# Altium schematic symbol library systeMECH.SchLib: 8 symbols
Pins are listed as number, name and electrical type; pins without a type are passive.

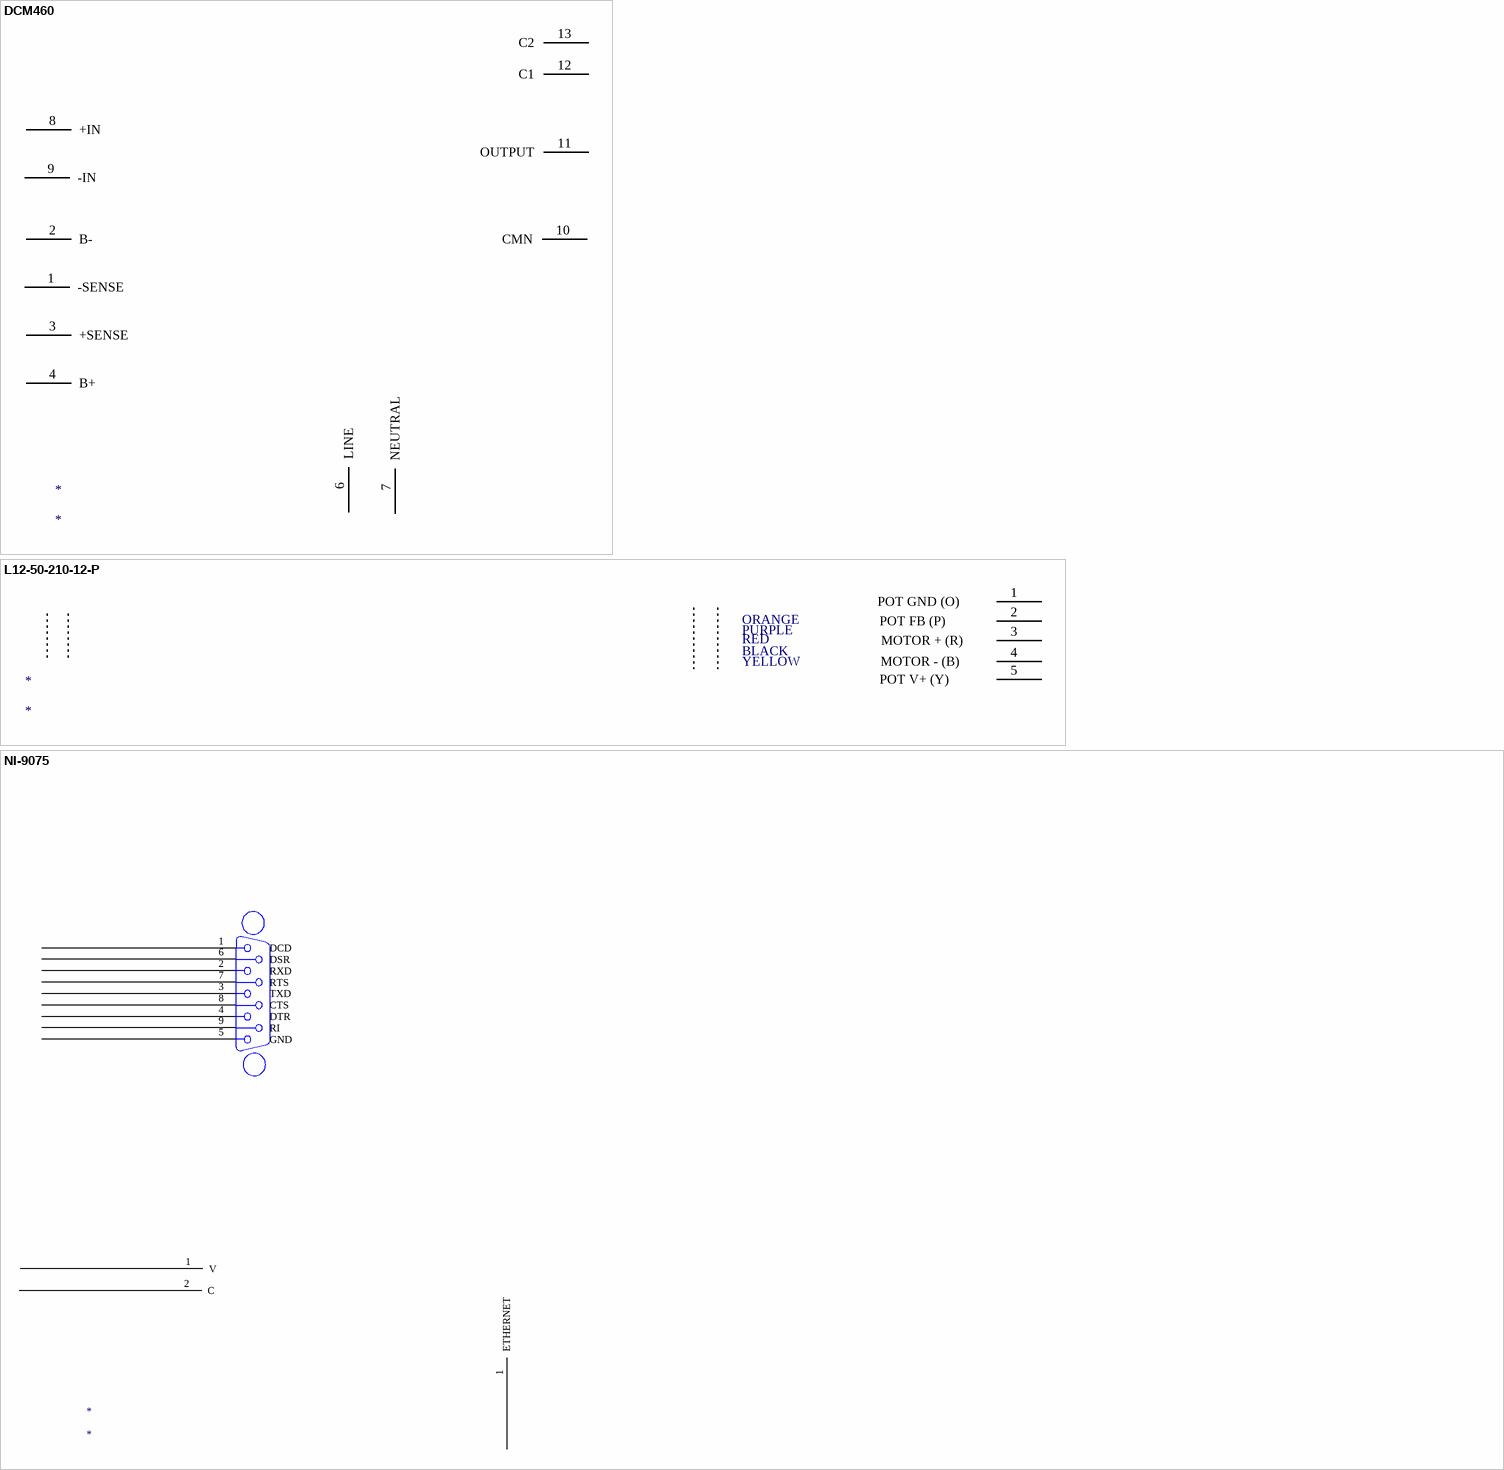
[diagram p0: symbols DCM460 to NI-9075]

## DCM460
designator *
pins: 1 -SENSE, 2 B-, 3 +SENSE, 4 B+, 6 LINE, 7 NEUTRAL, 8 +IN, 9 -IN, 10 CMN, 11 OUTPUT, 12 C1, 13 C2

## L12-50-210-12-P
designator *
pins: 1 POT GND (O)        , 2 POT FB (P)            , 3 MOTOR + (R)       , 4 MOTOR - (B)        , 5 POT V+ (Y)           
text: ORANGE; PURPLE; RED; BLACK; YELLOW

## NI-9075
designator *
pins: 1 V, 1 ETHERNET, 1            DCD, 2 C, 2            RXD, 3            TXD, 4            DTR, 5            GND, 6            DSR, 7            RTS, 8            CTS, 9            RI

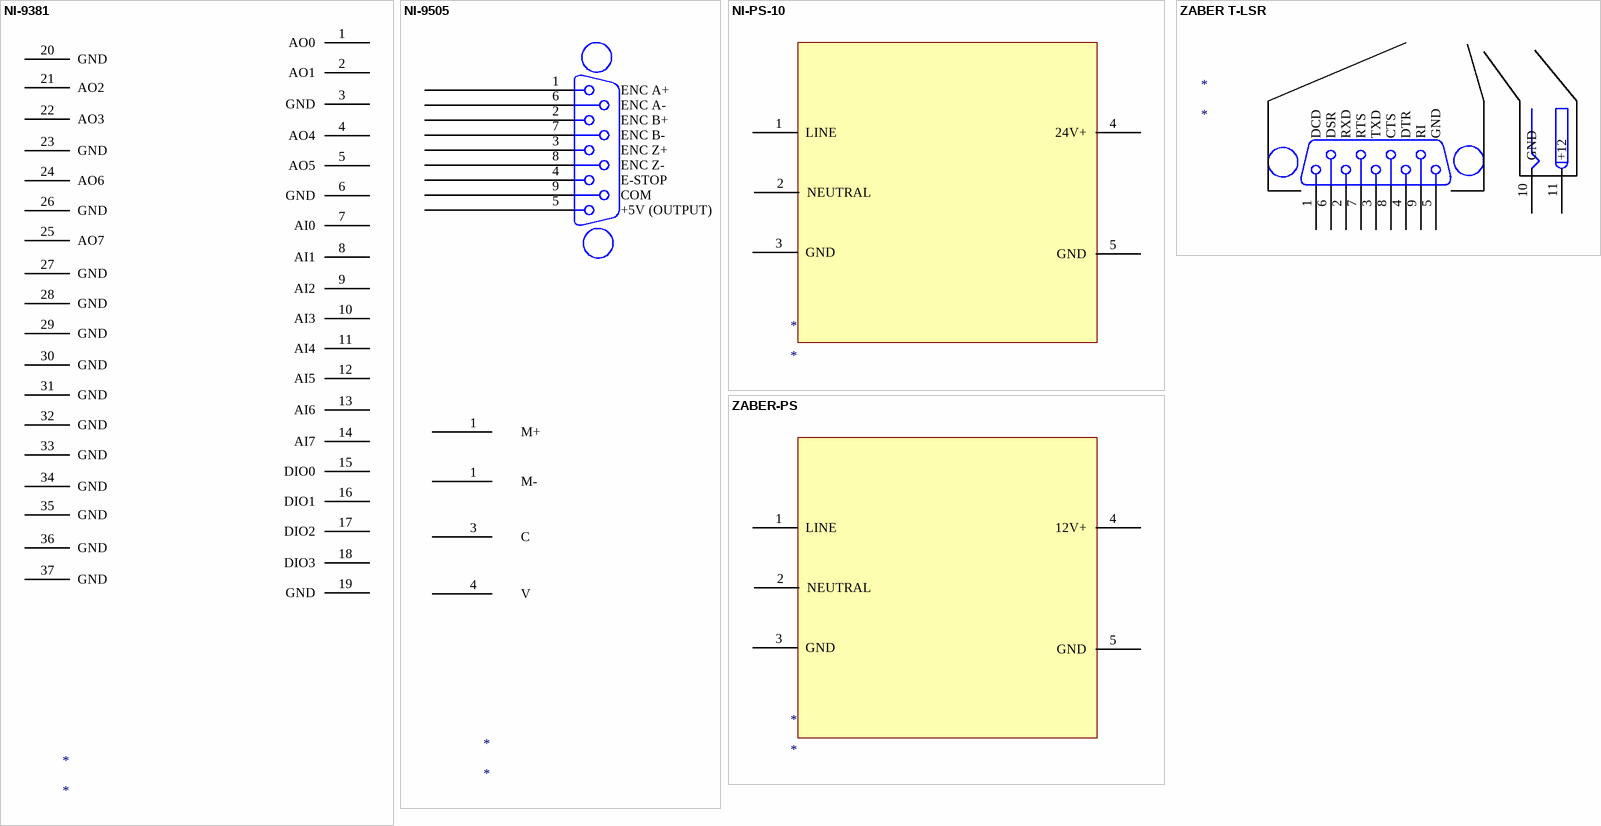
[diagram p1: symbols NI-9381 to ZABER-PS]

## NI-9381
designator *
pins: 1 AO0, 2 AO1, 3 GND, 4 AO4, 5 AO5, 6 GND, 7 AI0, 8 AI1, 9 AI2, 10 AI3, 11 AI4, 12 AI5, 13 AI6, 14 AI7, 15 DIO0, 16 DIO1, 17 DIO2, 18 DIO3, 19 GND, 20 GND, 21 AO2, 22 AO3, 23 GND, 24 AO6, 25 AO7, 26 GND, 27 GND, 28 GND, 29 GND, 30 GND, 31 GND, 32 GND, 33 GND, 34 GND, 35 GND, 36 GND, 37 GND

## NI-9505
designator *
pins: 1            ENC A+, 1       M+, 1       M-, 2            ENC B+, 3            ENC Z+, 3       C, 4            E-STOP, 4       V, 5            +5V (OUTPUT), 6            ENC A-, 7            ENC B-, 8            ENC Z-, 9            COM

## NI-PS-10
designator *
pins: 1 LINE, 2 NEUTRAL, 3 GND, 4 24V+, 5 GND

## ZABER T-LSR
designator *
pins: 1            DCD, 2            RXD, 3            TXD, 4            DTR, 5            GND, 6            DSR, 7            RTS, 8            CTS, 9            RI, 10 GND, 11 +12

## ZABER-PS
designator *
pins: 1 LINE, 2 NEUTRAL, 3 GND, 4 12V+, 5 GND